# EAGLE library part LSM330DLC (library igorsales)
LSM330DLC on an LGA28 (4x5x1.1mm) package
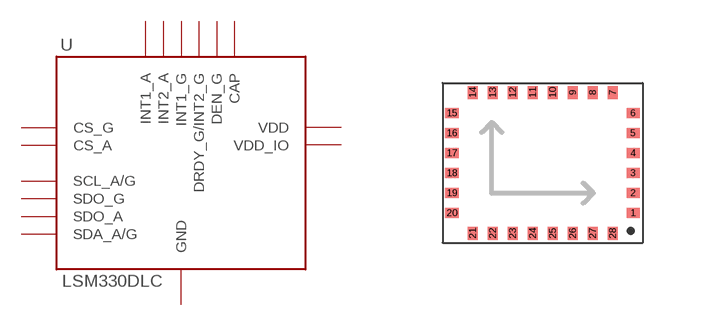
[diagram p4: symbol with the pads of LGA-28; footprint LGA-28]

Designator prefix -

## LSM330DLC  [LGA-28]
1  GND  pwr
2  GND  pwr
3  GND  pwr
4  GND  pwr
5  GND  pwr
6  GND  pwr
7  VDD  pwr
8  VDD  pwr
9  VDD  pwr
10  VDD  pwr
11  VDD  pwr
12  VDD  pwr
13  VDD  pwr
14  VDD  pwr
15  CAP
16  DEN_G  in
17  DRDY_G/INT2_G  out
18  INT1_G  out
19  INT2_A  out
20  INT1_A  out
21  VDD_IO  pwr
22  CS_G  in
23  CS_A  in
24  SCL_A/G  in
25  VDD_IO  pwr
26  SDO_G
27  SDO_A
28  SDA_A/G

## Footprint LGA-28 (pad centres in mm)
smd 0.325 x 0.25: 1 2.263,-1.25; 2 2.263,-0.75; 3 2.263,-0.25; 4 2.263,0.25; 5 2.263,0.75; 6 2.263,1.25; 15 -2.263,1.25; 16 -2.263,0.75; 17 -2.263,0.25; 18 -2.263,-0.25; 19 -2.263,-0.75; 20 -2.263,-1.25
smd 0.25 x 0.325: 7 1.75,1.762; 8 1.25,1.762; 9 0.75,1.762; 10 0.25,1.762; 11 -0.25,1.762; 12 -0.75,1.762; 13 -1.25,1.762; 14 -1.75,1.762; 21 -1.75,-1.762; 22 -1.25,-1.762; 23 -0.75,-1.762; 24 -0.25,-1.762; 25 0.25,-1.762; 26 0.75,-1.762; 27 1.25,-1.762; 28 1.75,-1.762